# Altium footprint library LABLIB.PcbLib: 213 footprints (part 7 of 14)
Each footprint in its own frame and in the unit in brackets; x right, y up, seen from the top. Pads: shape width x height; smd on the part's side, far side on the other; paste and mask are expansions set on the pad; w line width, h text height; cw(c..) or ccw(c..) is an arc to the next point about the centre after c.
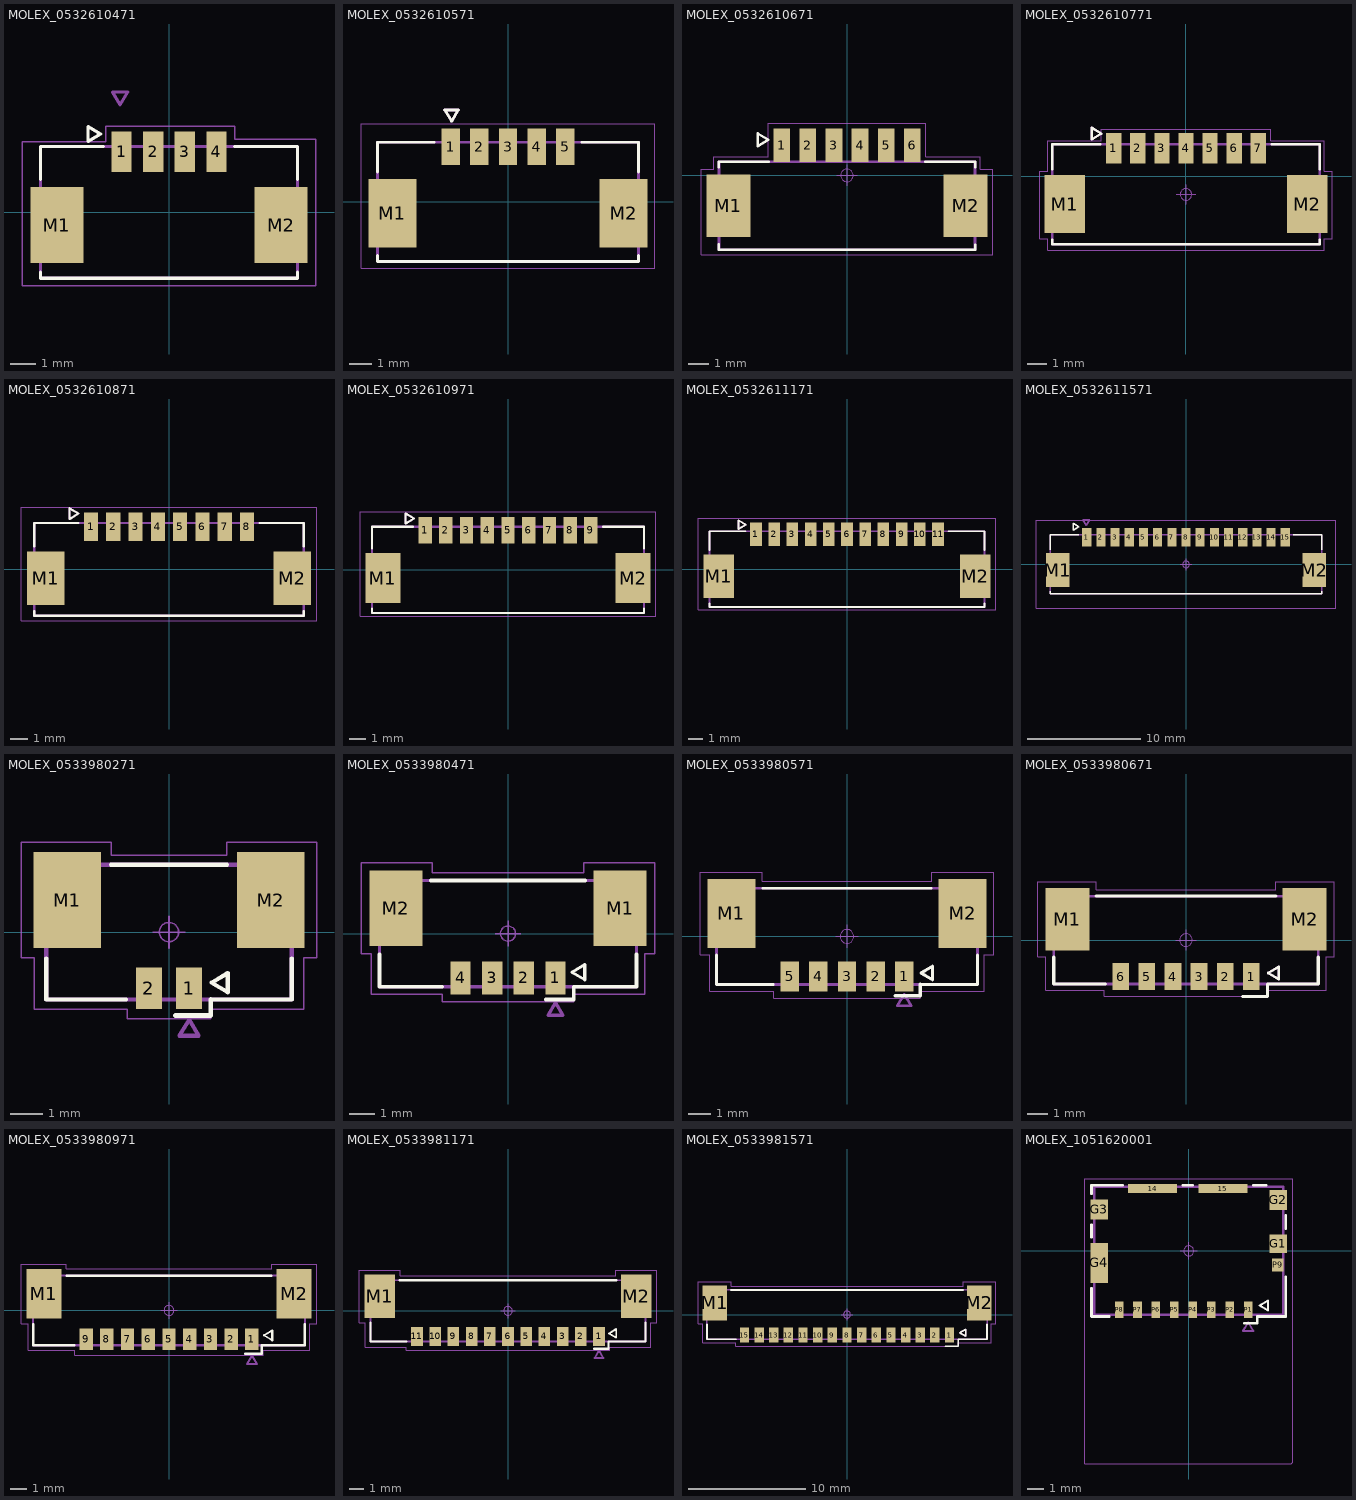
[diagram p6: the footprints below, top view; thin cyan lines are the x and y axes]

## MOLEX_0532610471 [mm]
height 3.4
pads (6):
  rect 0.8x1.6 smd mask+0.076: 1(-1.875,2.4) 2(-0.625,2.4) 3(0.625,2.4) 4(1.875,2.4)
  rect 2.1x3 smd mask+0.076: M1(-4.425,-0.5) M2(4.425,-0.5)
Top Overlay:
  lines w0.127: -5.075,-2.35 -5.075,-2.6 5.075,-2.6 5.075,-2.35 ; -5.075,1.3 -5.075,2.6 -2.595,2.6 ; 2.595,2.6 5.075,2.6 5.075,1.3 ; -3.2,2.8 -2.7,3.1 -3.2,3.4 -3.2,2.8
Top Courtyard:
  lines w0.05: -5.8,-2.9 -5.8,-1.7 -5.8,2.8 -2.5,2.8 -2.5,3.4 2.6,3.4 2.6,2.9 5.8,2.9 5.8,1.2 5.8,-1.4 5.8,-2.9 -5.8,-2.9
Mechanical 13:
  lines w0.127: -5.075,-2.6 -5.075,2.6 5.075,2.6 5.075,-2.6 -5.075,-2.6 ; -2.23,4.752 -1.93,4.252 -1.63,4.752 -2.23,4.752
3D body "532610471.STEP": height 3.4, standoff -0.05, extent -5.075,-2.6 5.075,2.6

## MOLEX_0532610571 [mm]
height 3.4
pads (7):
  rect 0.8x1.6 smd mask+0.076: 1(-2.5,2.4) 2(-1.25,2.4) 3(0,2.4) 4(1.25,2.4) 5(2.5,2.4)
  rect 2.1x3 smd mask+0.076: M1(-5.05,-0.5) M2(5.05,-0.5)
Top Overlay:
  lines w0.127: -5.7,-2.35 -5.7,-2.6 5.7,-2.6 5.7,-2.35 ; -5.7,1.3 -5.7,2.6 -3.22,2.6 ; 3.22,2.6 5.7,2.6 5.7,1.3 ; -2.765,4.015 -2.465,3.515 -2.165,4.015 -2.765,4.015
Mechanical 13:
  lines w0.127: -5.7,-2.6 -5.7,2.6 5.7,2.6 5.7,-2.6 -5.7,-2.6 ; -2.765,4.015 -2.465,3.515 -2.165,4.015 -2.765,4.015
Mechanical 15:
  lines w0.05: -6.4,-2.9 -6.4,3.4 6.4,3.4 6.4,-2.9 -6.4,-2.9
3D body "532610571.stp": height 3.2, standoff -0.2, extent -5.7,-2.6 5.7,2.6

## MOLEX_0532610671 [mm]
pads (8):
  rect 0.8x1.6 smd: 1(-3.125,1.45) 2(-1.875,1.45) 3(-0.625,1.45) 4(0.625,1.45) 5(1.875,1.45) 6(3.125,1.45)
  rect 2.1x3 smd: M1(-5.675,-1.45) M2(5.675,-1.45)
Top Overlay:
  lines w0.12: -6.125,-3.3 -6.125,-3.55 6.125,-3.55 6.125,-3.325 ; -6.125,0.4 -6.125,0.65 -3.75,0.65 ; 3.75,0.65 6.125,0.65 6.125,0.4
  lines w0.127: -4.27,1.403 -4.27,2.003 -3.77,1.703 -4.27,1.403
Top Assembly:
  lines w0.127: -6.125,-3.55 6.125,-3.55 6.125,0.65 -6.125,0.65 -6.125,-3.55
  text "'.Designator'" at -3.952,-0.622 h1.5
Top Courtyard:
  lines w0.05: -6.975,-3.8 -6.975,0.3 -6.375,0.3 -6.375,0.9 -3.775,0.9 -3.775,2.5 3.775,2.5 3.775,0.9 6.375,0.9 6.375,0.3 6.975,0.3 6.975,-3.8 -6.975,-3.8
Top Component Center:
  circle w0.05: c0,0 r0.3
  lines w0.05: -0.5,0 0.5,0 ; 0,-0.5 0,0.5
3D body "53261-0671.stp": height 3.4, standoff 0, extent -6.325,-3.429 6.325,1.771

## MOLEX_0532610771 [mm]
height 3.4
pads (9):
  rect 0.8x1.6 smd mask+0.076: 1(-3.75,1.45) 2(-2.5,1.45) 3(-1.25,1.45) 4(0,1.45) 5(1.25,1.45) 6(2.5,1.45) 7(3.75,1.45)
  rect 2.1x3 smd mask+0.076: M1(-6.3,-1.45) M2(6.3,-1.45)
Top Overlay:
  lines w0.127: -6.95,-3.3 -6.95,-3.55 6.95,-3.55 6.95,-3.3 ; -6.95,0.35 -6.95,1.65 -4.47,1.65 ; 4.47,1.65 6.95,1.65 6.95,0.35 ; -4.895,1.915 -4.395,2.215 -4.895,2.515 -4.895,1.915
Top Assembly:
  text "'.Designator'" at -3.952,-1.572 h1.5
Top Courtyard:
  lines w0.05: -7.6,-3.25 -7.6,0.25 -7.2,0.25 -7.2,1.85 -4.4,1.85 -4.4,2.45 -4.2,2.45 4.4,2.45 4.4,1.85 7.2,1.85 7.2,0.25 7.6,0.25 7.6,-3.25 7.2,-3.25 7.2,-3.85 -7.2,-3.85 -7.2,-3.25 -7.6,-3.25
Top Component Center:
  circle w0.05: c0,-0.95 r0.3
  lines w0.05: -0.5,-0.95 0.5,-0.95 ; 0,-1.45 0,-0.45
Mechanical 13:
  lines w0.127: -6.95,-3.55 -6.95,1.65 6.95,1.65 6.95,-3.55 -6.95,-3.55 ; -4.895,1.915 -4.395,2.215 -4.895,2.515 -4.895,1.915
3D body "532610771.stp": height 3.4, standoff 0, extent -6.95,-3.61 6.95,1.59

## MOLEX_0532610871 [mm]
height 3.4
pads (10):
  rect 0.8x1.6 smd mask+0.076: 1(-4.375,2.4) 2(-3.125,2.4) 3(-1.875,2.4) 4(-0.625,2.4) 5(0.625,2.4) 6(1.875,2.4) 7(3.125,2.4) 8(4.375,2.4)
  rect 2.1x3 smd mask+0.076: M1(-6.925,-0.5) M2(6.925,-0.5)
Top Overlay:
  lines w0.127: -7.575,-2.35 -7.575,-2.6 7.575,-2.6 7.575,-2.35 ; -7.575,1.3 -7.575,2.6 -5.095,2.6 ; 5.095,2.6 7.575,2.6 7.575,1.3 ; -5.585,2.83 -5.085,3.13 -5.585,3.43 -5.585,2.83
Top Courtyard:
  lines w0.05: -8.3,-2.9 8.3,-2.9 8.3,-2.3 8.3,1.3 8.3,3.5 5.1,3.5 -4.8,3.5 -5.1,3.5 -8.3,3.5 -8.3,1.3 -8.3,-2.3 -8.3,-2.9
Mechanical 13:
  lines w0.127: -7.575,-2.6 -7.575,2.6 7.575,2.6 7.575,-2.6 -7.575,-2.6 ; -5.585,2.83 -5.085,3.13 -5.585,3.43 -5.585,2.83
3D body "532610871.STEP": height 3.4, standoff 0, extent -7.575,-2.6 7.575,2.6

## MOLEX_0532610971 [mm]
height 3.4
pads (11):
  rect 0.8x1.6 smd mask+0.076: 1(-5,2.4) 2(-3.75,2.4) 3(-2.5,2.4) 4(-1.25,2.4) 5(0,2.4) 6(1.25,2.4) 7(2.5,2.4) 8(3.75,2.4) 9(5,2.4)
  rect 2.1x3 smd mask+0.076: M1(-7.55,-0.5) M2(7.55,-0.5)
Top Overlay:
  lines w0.127: -8.2,-2.35 -8.2,-2.6 8.2,-2.6 8.2,-2.35 ; -8.2,1.3 -8.2,2.6 -5.72,2.6 ; 5.72,2.6 8.2,2.6 8.2,1.3 ; -6.175,2.795 -6.175,3.395 -5.675,3.095 -6.175,2.795
Top Courtyard:
  lines w0.05: -8.9,-2.8 8.9,-2.8 8.9,3.5 -8.9,3.5 -8.9,-2.8
Mechanical 13:
  lines w0.127: -8.2,-2.6 8.2,-2.6 8.2,2.6 -8.2,2.6 -8.2,-2.6 ; -6.175,2.795 -6.175,3.395 -5.675,3.095 -6.175,2.795
3D body "532610971.stp": height 3.4, standoff 0, extent -8.2,-2.6 8.2,2.6

## MOLEX_0532611171 [mm]
height 3.4
pads (13):
  rect 0.8x1.6 smd mask+0.076: 1(-6.25,2.4) 2(-5,2.4) 3(-3.75,2.4) 4(-2.5,2.4) 5(-1.25,2.4) 6(0,2.4) 7(1.25,2.4) 8(2.5,2.4) 9(3.75,2.4) 10(5,2.4) 11(6.25,2.4)
  rect 2.1x3 smd mask+0.076: M1(-8.8,-0.5) M2(8.8,-0.5)
Top Overlay:
  lines w0.127: -9.45,-2.35 -9.45,-2.6 9.45,-2.6 9.45,-2.35 ; -9.45,1.3 -9.45,2.6 -6.97,2.6 ; 6.97,2.6 9.45,2.6 9.45,1.3 ; -7.455,2.752 -6.955,3.052 -7.455,3.352 -7.455,2.752
Top Courtyard:
  lines w0.05: -10.2,-2.8 10.2,-2.8 10.2,3.5 -10.2,3.5 -10.2,-2.8
Mechanical 13:
  lines w0.127: -9.45,-2.6 -9.45,2.6 9.45,2.6 9.45,-2.6 -9.45,-2.6 ; -7.455,2.752 -6.955,3.052 -7.455,3.352 -7.455,2.752
3D body "532611171.stp": height 3.4, standoff 0, extent -9.45,-2.6 9.45,2.6

## MOLEX_0532611571 [mm]
height 3.4
pads (17):
  rect 0.8x1.6 smd mask+0.076: 1(-8.75,2.4) 2(-7.5,2.4) 3(-6.25,2.4) 4(-5,2.4) 5(-3.75,2.4) 6(-2.5,2.4) 7(-1.25,2.4) 8(0,2.4) 9(1.25,2.4) 10(2.5,2.4) 11(3.75,2.4) 12(5,2.4) 13(6.25,2.4) 14(7.5,2.4) 15(8.75,2.4)
  rect 2.1x3 smd mask+0.076: M1(-11.3,-0.5) M2(11.3,-0.5)
Top Overlay:
  lines w0.127: -11.95,-2.35 -11.95,-2.6 11.95,-2.6 11.95,-2.35 ; -11.95,1.3 -11.95,2.6 -9.47,2.6 ; 9.47,2.6 11.95,2.6 11.95,1.3 ; -9.942,3.012 -9.442,3.312 -9.942,3.612 -9.942,3.012
Top Assembly:
  lines w0.127: -11.95,-2.6 -11.95,2.6 11.95,2.6 11.95,-2.6 -11.95,-2.6 ; -9.088,3.942 -8.788,3.442 -8.488,3.942 -9.088,3.942
  text "'.Designator'" at -4.433,-0.827 h1.6
Top Courtyard:
  lines w0.05: -13.22,-3.87 -13.22,3.87 13.22,3.87 13.22,-3.87 -13.22,-3.87
Bottom 3D Body:
  text "'.Designator'" at -4.433,-0.827 h1.6
Top Component Center:
  circle w0.05: c0,0 r0.3
  lines w0.05: -0.5,0 0.5,0 ; 0,-0.5 0,0.5
3D body "532611571.stp": height 3.45, standoff 0.05, extent -11.95,-2.607 11.95,2.593

## MOLEX_0533980271 [mm]
height 4.7
pads (4):
  rect 0.8x1.3 smd mask+0.076: 1(0.625,-1.75) 2(-0.625,-1.75)
  rect 2.1x3 smd mask+0.076: M1(-3.175,1) M2(3.175,1)
Top Overlay:
  lines w0.127: -3.825,-0.82 -3.825,-2.1 -1.345,-2.1 ; -1.805,2.1 1.805,2.1 ; 1.345,-2.1 3.825,-2.1 3.825,-0.82 ; 1.33,-1.575 1.83,-1.875 1.83,-1.275 1.33,-1.575
  lines w0.15: 0.2,-2.6 1.3,-2.6 1.3,-2.1
Top Assembly:
  lines w0.127: -3.825,-2.1 -3.825,2.1 3.825,2.1 3.825,-2.1 -3.825,-2.1 ; 0.325,-3.23 0.925,-3.23 0.625,-2.73 0.325,-3.23
  text "'.Designator'" at -4.217,-0.663 h1.6
Top Courtyard:
  lines w0.05: -4.6,-0.8 -4.2,-0.8 -4.2,-2.4 -1.3,-2.4 -1.3,-2.7 1.3,-2.7 1.3,-2.4 4.2,-2.4 4.2,-0.8 4.6,-0.8 4.6,2.8 4.2,2.8 1.8,2.8 1.8,2.4 -1.8,2.4 -1.8,2.8 -4.6,2.8 -4.6,-0.8
Top Component Center:
  circle w0.05: c0,0 r0.3
  lines w0.05: -0.5,0 0.5,0 ; 0,-0.5 0,0.5
3D body "533980271.STEP": height 4.7, standoff 0, extent -3.825,-2.096 3.825,2.104

## MOLEX_0533980471 [mm]
height 4.7
pads (6):
  rect 0.8x1.3 smd mask+0.076: 1(1.875,-1.75) 2(0.625,-1.75) 3(-0.625,-1.75) 4(-1.875,-1.75)
  rect 2.1x3 smd mask+0.076: M1(4.425,1) M2(-4.425,1)
Top Overlay:
  lines w0.127: 2.53,-1.525 3.03,-1.225 3.03,-1.825 2.53,-1.525
  lines w0.15: -5.075,-0.82 -5.075,-2.1 -2.595,-2.1 ; -3.055,2.1 3.055,2.1 ; 1.5,-2.6 2.6,-2.6 2.6,-2.1 ; 2.595,-2.1 5.075,-2.1 5.075,-0.82
Top Assembly:
  lines w0.127: -5.075,-2.1 5.075,-2.1 5.075,2.1 -5.075,2.1 -5.075,-2.1 ; 1.575,-3.23 1.875,-2.73 2.175,-3.23 1.575,-3.23
  text "'.Designator'" at -4.217,-0.663 h1.6
Top Courtyard:
  lines w0.05: -5.8,-0.8 -5.8,2.8 -3.4,2.8 -3,2.8 -3,2.4 3,2.4 3,2.8 5.8,2.8 5.8,-0.8 5.4,-0.8 5.4,-2.4 2.6,-2.4 2.6,-2.7 -2.6,-2.7 -2.6,-2.4 -5.4,-2.4 -5.4,-0.8 -5.8,-0.8
Top Component Center:
  circle w0.05: c0,0 r0.3
  lines w0.05: -0.5,0 0.5,0 ; 0,-0.5 0,0.5
3D body "533980471.STEP": height 4.7, standoff 0, extent -5.075,-2.15 5.075,2.05

## MOLEX_0533980571 [mm]
height 4.7
pads (7):
  rect 0.8x1.3 smd mask+0.076: 1(2.5,-1.75) 2(1.25,-1.75) 3(0,-1.75) 4(-1.25,-1.75) 5(-2.5,-1.75)
  rect 2.1x3 smd mask+0.076: M1(-5.05,1) M2(5.05,1)
Top Overlay:
  lines w0.127: -5.7,-0.82 -5.7,-2.1 -3.22,-2.1 ; -3.68,2.1 3.68,2.1 ; 3.22,-2.1 5.7,-2.1 5.7,-0.82 ; 3.23,-1.6 3.73,-1.9 3.73,-1.3 3.23,-1.6
  lines w0.15: 2.1,-2.6 3.2,-2.6 3.2,-2.1
Top Assembly:
  lines w0.127: -5.7,-2.1 5.7,-2.1 5.7,2.1 -5.7,2.1 -5.7,-2.1 ; 2.2,-3.03 2.8,-3.03 2.5,-2.53 2.2,-3.03
  text "'.Designator'" at -4.217,-0.663 h1.6
Top Courtyard:
  lines w0.05: -6.4,-0.8 -6,-0.8 -6,-2.4 -3.2,-2.4 -3.2,-2.7 3.2,-2.7 3.2,-2.4 6,-2.4 6,-0.8 6.4,-0.8 6.4,2.8 3.7,2.8 3.7,2.4 -3.7,2.4 -3.7,2.8 -6.4,2.8 -6.4,2.4 -6.4,-0.8
Top Component Center:
  circle w0.05: c0,0 r0.3
  lines w0.05: -0.5,0 0.5,0 ; 0,-0.5 0,0.5
3D body "step_temp.STEP": height 4.7, standoff 0, extent -5.7,-2.35 5.7,1.85

## MOLEX_0533980671 [mm]
height 4.7
pads (8):
  rect 0.8x1.3 smd mask+0.076: 1(3.125,-1.75) 2(1.875,-1.75) 3(0.625,-1.75) 4(-0.625,-1.75) 5(-1.875,-1.75) 6(-3.125,-1.75)
  rect 2.1x3 smd mask+0.076: M1(-5.675,1) M2(5.675,1)
Top Overlay:
  lines w0.127: 3.93,-1.575 4.43,-1.875 4.43,-1.275 3.93,-1.575
  lines w0.15: -6.325,-0.82 -6.325,-2.1 -3.845,-2.1 ; -4.305,2.1 4.305,2.1 ; 2.7,-2.7 3.9,-2.7 3.9,-2.1 6.325,-2.1 6.325,-0.82
Top Assembly:
  lines w0.127: -6.325,-2.1 -6.325,2.1 6.325,2.1 6.325,-2.1 -6.325,-2.1
  text "'.Designator'" at -4.217,-0.663 h1.6
Top Courtyard:
  lines w0.05: -7.1,-0.8 -7.1,2.8 -4.7,2.8 -4.3,2.8 -4.3,2.4 4.3,2.4 4.3,2.8 7.1,2.8 7.1,-0.8 6.7,-0.8 6.7,-2.4 3.9,-2.4 3.9,-2.7 -3.9,-2.7 -3.9,-2.4 -6.7,-2.4 -6.7,-0.8 -7.1,-0.8
Top Component Center:
  circle w0.05: c0,0 r0.3
  lines w0.05: -0.5,0 0.5,0 ; 0,-0.5 0,0.5
Mechanical 13:
  lines w0.127: 3.93,-1.575 4.43,-1.875 4.43,-1.275 3.93,-1.575
3D body "533980671.stp": height 4.7, standoff 0, extent -6.325,-2.1 6.325,2.1

## MOLEX_0533980971 [mm]
height 4.7
pads (11):
  rect 0.8x1.3 smd mask+0.076: 1(5,-1.75) 2(3.75,-1.75) 3(2.5,-1.75) 4(1.25,-1.75) 5(0,-1.75) 6(-1.25,-1.75) 7(-2.5,-1.75) 8(-3.75,-1.75) 9(-5,-1.75)
  rect 2.1x3 smd mask+0.076: M1(-7.55,1) M2(7.55,1)
Top Overlay:
  lines w0.127: 5.73,-1.5 6.23,-1.8 6.23,-1.2 5.73,-1.5
  lines w0.15: -8.2,-0.82 -8.2,-2.1 -5.72,-2.1 ; -6.18,2.1 6.18,2.1 ; 4.6,-2.6 5.6,-2.6 5.6,-2.1 8.2,-2.1 8.2,-0.82
Top Assembly:
  lines w0.127: -8.2,-2.1 -8.2,2.1 8.2,2.1 8.2,-2.1 -8.2,-2.1 ; 4.7,-3.23 5.3,-3.23 5,-2.73 4.7,-3.23
  text "'.Designator'" at -4.217,-0.663 h1.6
Top Courtyard:
  lines w0.05: -8.9,-0.8 -8.9,2.8 -6.5,2.8 -6.2,2.8 -6.2,2.5 6.2,2.5 6.2,2.8 8.9,2.8 8.9,-0.8 8.5,-0.8 8.5,-2.4 5.7,-2.4 5.7,-2.7 -5.7,-2.7 -5.7,-2.4 -8.5,-2.4 -8.5,-0.8 -8.9,-0.8
Top Component Center:
  circle w0.05: c0,0 r0.3
  lines w0.05: -0.5,0 0.5,0 ; 0,-0.5 0,0.5
3D body "533980971.STEP": height 4.7, standoff 0, extent -8.3,-2.05 8.1,2.15

## MOLEX_0533981171 [mm]
height 4.7
pads (13):
  rect 0.8x1.3 smd mask+0.076: 1(6.25,-1.75) 2(5,-1.75) 3(3.75,-1.75) 4(2.5,-1.75) 5(1.25,-1.75) 6(0,-1.75) 7(-1.25,-1.75) 8(-2.5,-1.75) 9(-3.75,-1.75) 10(-5,-1.75) 11(-6.25,-1.75)
  rect 2.1x3 smd mask+0.076: M1(-8.8,1) M2(8.8,1)
Top Overlay:
  lines w0.127: 6.93,-1.55 7.43,-1.25 7.43,-1.85 6.93,-1.55
  lines w0.15: -9.45,-0.82 -9.45,-2.1 -6.97,-2.1 ; -7.43,2.1 7.43,2.1 ; 5.9,-2.6 6.9,-2.6 6.9,-2.1 9.45,-2.1 9.45,-0.82
Top Assembly:
  lines w0.127: -9.45,-2.1 9.45,-2.1 9.45,2.1 -9.45,2.1 -9.45,-2.1 ; 5.95,-3.23 6.25,-2.73 6.55,-3.23 5.95,-3.23
  text "'.Designator'" at -4.217,-0.663 h1.6
Top Courtyard:
  lines w0.05: -10.2,-0.8 -9.8,-0.8 -9.8,-2.4 -9.8,-2.5 -7,-2.5 -7,-2.7 7,-2.7 7,-2.5 9.8,-2.5 9.8,-0.8 10.2,-0.8 10.2,2.8 7.4,2.8 7.4,2.4 -7.4,2.4 -7.4,2.8 -7.8,2.8 -10.2,2.8 -10.2,-0.8
Top Component Center:
  circle w0.05: c0,0 r0.3
  lines w0.05: -0.5,0 0.5,0 ; 0,-0.5 0,0.5
3D body "533981171.STEP": height 4.7, standoff 0, extent -9.45,-2.15 9.45,2.05

## MOLEX_0533981571 [mm]
height 4.7
pads (17):
  rect 0.8x1.3 smd mask+0.076: 1(8.75,-1.75) 2(7.5,-1.75) 3(6.25,-1.75) 4(5,-1.75) 5(3.75,-1.75) 6(2.5,-1.75) 7(1.25,-1.75) 8(0,-1.75) 9(-1.25,-1.75) 10(-2.5,-1.75) 11(-3.75,-1.75) 12(-5,-1.75) 13(-6.25,-1.75) 14(-7.5,-1.75) 15(-8.75,-1.75)
  rect 2.1x3 smd mask+0.076: M1(-11.3,1) M2(11.3,1)
Top Overlay:
  lines w0.127: 9.63,-1.55 10.13,-1.85 10.13,-1.25 9.63,-1.55
  lines w0.15: -11.95,-0.82 -11.95,-2.1 -9.47,-2.1 ; -9.93,2.1 9.93,2.1 ; 8.4,-2.7 9.5,-2.7 9.5,-2.1 11.95,-2.1 11.95,-0.82
Top Assembly:
  lines w0.127: -11.95,-2.1 -11.95,2.1 11.95,2.1 11.95,-2.1 -11.95,-2.1 ; 9.63,-1.55 10.13,-1.25 10.13,-1.85 9.63,-1.55
  text "'.Designator'" at -4.217,-0.663 h1.6
Top Courtyard:
  lines w0.05: -12.7,-0.8 -12.3,-0.8 -12.3,-2.4 -9.5,-2.4 -9.5,-2.7 9.493,-2.7 9.493,-2.407 9.5,-2.4 12.3,-2.4 12.3,-0.8 12.7,-0.8 12.7,2.8 9.9,2.8 9.9,2.4 -9.889,2.4 -9.889,2.789 -9.9,2.8 -12.3,2.8 -12.7,2.8 -12.7,-0.8
Top Component Center:
  circle w0.05: c0,0 r0.3
  lines w0.05: -0.5,0 0.5,0 ; 0,-0.5 0,0.5
3D body "533981571.stp": height 4.7, standoff 0, extent -11.95,-2.1 11.95,2.1

## MOLEX_1051620001 [mil]
pads (15):
  rect 115x22 smd: 14(-84.45,146.35) 15(80.51,146.35)
  rect 41x43 smd: G1(209.65,17.02)
  rect 41x47 smd: G2(209.65,119.78) G3(-209.64,97.33)
  rect 41x94 smd: G4(-209.65,-28.06)
  rect 20x39 smd: P1(139.76,-138.49) P2(96.46,-138.49) P3(53.15,-138.49) P4(9.84,-138.49) P5(-33.46,-138.49) P6(-76.77,-138.49) P7(-120.08,-138.49) P8(-163.39,-138.49)
  rect 28x31 smd: P9(209.06,-32.98)
Top Overlay:
  lines w5: 166.54,-127.95 186.22,-139.76 186.22,-116.14 166.54,-127.95
  lines w5.91: 129.92,-169.29 161.42,-169.29 161.42,-153.54
  lines w6: -228,-88 -228,-154 -186,-154 ; -228,32 -228,61 ; -228,134 -228,154 -155,154 ; -14,154 10,154 ; 151,154 182,154 ; 163,-154 228,-154 228,-61 ; 228,52 228,83
Top Assembly:
  lines w5: 127.91,-187.55 151.53,-187.55 139.72,-167.87 127.91,-187.55
  lines w6: -222,-150 222,-150 222,150 -222,150 -222,-150
  text "'.Designator'" at -166.01,-26.12 h62.99
Top Courtyard:
  lines w1.97: -244.09,-500 240.16,-500 244.09,-496.06 244.09,169.29 -228.35,169.29 -244.09,169.29 -244.09,-169.29 -244.09,-500
Top Component Center:
  circle w1.97: c0,0 r11.81
  lines w1.97: -19.68,0 19.68,0 ; 0,-19.68 0,19.68
3D body "1051620001.STEP": height 57.09, standoff 0, extent -222.44,-149.61 222.44,149.61
3D body "User Library-Micro SD Card.SLDPRT": height 59.18, standoff 15.18, extent -208.66,-484.78 226.34,106.82